# Altium schematic symbol library passive_thd.SchLib: 36 symbols
Pins are listed as number, name and electrical type; pins without a type are passive.

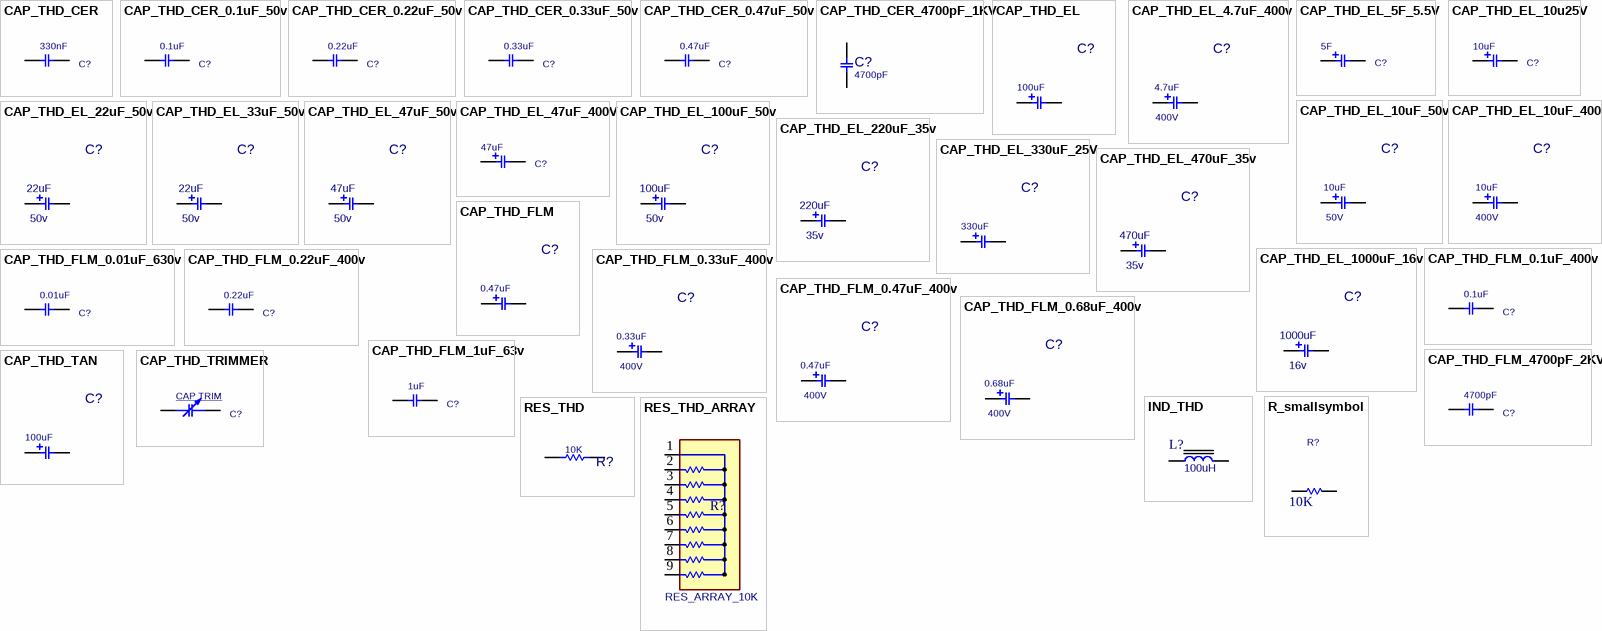
[diagram p0: symbols CAP_THD_CER to RES_THD_ARRAY]

## CAP_THD_CER
designator C?, comment 330nF
CAP, THD, CER MULTI LAYER,; DESC: CAP, CER MULTI LAYER,; MANF_P#: MANF_PART#; PARAM2: 50V; PRICE: 100= 1$; MANF: MANF; ASSEMBLY: ASSEMBLY; VALUE: 330nF
footprint C_CERM_D3 (CAP, CER MULTILAYER, D:3.5mm, pitch: 2.54mm)
footprint C_CER_D5 (CAP, CER, D:5mm, pitch: 2.5mm)
footprint C_CERM_D6 (CAP, CER MULTILAYER, 6X2mm, pitch: 5mm)
footprint C_CERM_D7 (CAP, CER MULTILAYER, 7.0X2.6mm, pitch: 5.0mm)
footprint C_CERM_D10 (CAP, CER MULTILAYER, 12X4mm, pitch: 7.5mm)
footprint C_CERM_D4 (CAP, CER MULTILAYER, 4.2X2.0mm, pitch: 5.0mm, TDK FK24)
footprint C_CERM_D5 (CAP, CER MULTILAYER, 5.0X2.5mm, pitch: 2.5mm, RAD0.1)
footprint C_CERM_D5X3 (CAP, CER,)
footprint C_CERM_D5E (CAP, CER, High Voltage MultiLayer)
footprint C_CERM_D8 (CAP, CER, High Voltage MultiLayer)
footprint C_CERM_D8E (CAP, CER, High Voltage MultiLayer)
footprint C_CERM_D8X7 (CAP, CER, High Voltage MultiLayer)
footprint C_CERM_D9X5 (CAP, CER, High Voltage MultiLayer)
footprint C_CERM_D9X7 (CAP, CER, High Voltage MultiLayer)
footprint C_CERM_D9X7E (CAP, CER, High Voltage MultiLayer)
footprint C_CERM_D10X6 (CAP, CER, High Voltage MultiLayer)
footprint C_CERM_D10X7 (CAP, CER, High Voltage MultiLayer)
footprint C_CERM_D12 (CAP, CER, High Voltage MultiLayer)
footprint C_CERM_D12X7 (CAP, CER, High Voltage MultiLayer)
footprint C_CERM_D14 (CAP, CER, High Voltage MultiLayer)
footprint C_CERM_D15X9 (CAP, CER, High Voltage MultiLayer)
footprint C_CERM_D16X5 (CAP, CER, High Voltage MultiLayer)
footprint C_CERM_D18X8 (CAP, CER, High Voltage MultiLayer)
footprint C_CERM_D20X6 (CAP, CER, High Voltage MultiLayer)
footprint C_CERM_D25X8 (CAP, CER, High Voltage MultiLayer)
footprint C_CERM_D25X11 (CAP, CER, High Voltage MultiLayer)
footprint C_CER_D6 (CAP, CER MULTILAYER, 5.8X1.7mm, pitch: 2.5mm)
footprint C_CER_D7 (CAP, CER MULTILAYER, 7.0X1.7mm, pitch: 5.0mm)
footprint C_CER_D8 (CAP, CER, D: 8.3mm, pitch: 5.08mm)
pins: 1, 2

## CAP_THD_CER_0.1uF_50v
designator C?, comment 0.1uF
CAP, THD, CER MULTI LAYER,; DESC: CAP, CER MULTI LAYER,; MANF_P#: MANF_PART#; PARAM2: 50V; PRICE: 100= 1$; MANF: MANF; ASSEMBLY: ASSEMBLY; VALUE: 0.1uF
footprint C_CERM_D4 (CAP, CER MULTILAYER, 4.2X2.0mm, pitch: 5.0mm, TDK FK24)
pins: 1, 2

## CAP_THD_CER_0.22uF_50v
designator C?, comment 0.22uF
CAP, THD, CER MULTI LAYER,; DESC: CAP, CER MULTI LAYER,; MANF_P#: MANF_PART#; PARAM2: 50V; PRICE: 100= 1$; MANF: MANF; ASSEMBLY: ASSEMBLY; VALUE: 0.22uF
footprint C_CERM_D4 (CAP, CER MULTILAYER, 4.2X2.0mm, pitch: 5.0mm, TDK FK24)
pins: 1, 2

## CAP_THD_CER_0.33uF_50v
designator C?, comment 0.33uF
CAP, THD, CER MULTI LAYER,; DESC: CAP, CER MULTI LAYER,; MANF_P#: MANF_PART#; PARAM2: 50V; PRICE: 100= 1$; MANF: MANF; ASSEMBLY: ASSEMBLY; VALUE: 0.33uF
footprint C_CERM_D4 (CAP, CER MULTILAYER, 4.2X2.0mm, pitch: 5.0mm, TDK FK24)
pins: 1, 2

## CAP_THD_CER_0.47uF_50v
designator C?, comment 0.47uF
CAP, THD, CER MULTI LAYER,; DESC: CAP, CER MULTI LAYER,; MANF_P#: MANF_PART#; PARAM2: 50V; PRICE: 100= 1$; MANF: MANF; ASSEMBLY: ASSEMBLY; VALUE: 0.47uF
footprint C_CERM_D4 (CAP, CER MULTILAYER, 4.2X2.0mm, pitch: 5.0mm, TDK FK24)
pins: 1, 2

## CAP_THD_CER_4700pF_1KV
designator C?, comment 4700pF
CAP, CER; MANF_P#: H472K47X7RN63J7R; MANF: Vishay; PARAM: X7R, 10%, , -55~125oC; DESC: CAP, MLCC; DIST#: MOUSER; PARAM2: 1KV; ASSEMBLY: ASSEMBLY; PRICE: 0.17$; VALUE: 4700pF
footprint C_CERM_D12 (CAP, CER, High Voltage MultiLayer)
pins: 1, 2

## CAP_THD_EL
designator C?, comment 100uF
CAP, THD, ELEC,; MANF_P#: MANF_PART#; PARAM2: 25V; DESC: DESCRIPTION; DIST#: MOUSER; PARAM: 20%; PRICE: 10= 5$; MANF: MANF; ASSEMBLY: ASSEMBLY; VALUE: 100uF
footprint C_EL_4X7 (Cap Elec, D4.0X7.0H pitch: 1.5mm)
footprint C_EL_5X7 (Cap Elec, D5.0X7.0H pitch: 2mm)
footprint C_EL_5X11 (Cap Elec, D5.0X11.0H pitch: 2mm)
footprint C_EL_6X11 (Cap Elec, D6.3X11.0H pitch: 2.5mm)
footprint C_EL_8X12 (Cap Elec, D8.0X12.0H pitch: 3.5mm, RB.14/.26, RB.15/.32)
footprint C_EL_8X12R (Cap Elec, D8.0X12.0H pitch: 3.5mm, RIGHT ANGLE)
footprint C_EL_10X20 (Cap Elec, D10.0X20.0H pitch: 5.0mm, RB.2/.4)
footprint C_EL_12X25 (Cap Elec, D12.0X25.0H pitch: 5.0mm, RB.2/.5)
footprint C_EL_16X25 (Cap Elec, D16.0X25.0H pitch: 7.6mm, RB.3/.6)
footprint C_EL_18X35 (Cap Elec, D18.0X35.0H pitch: 7.6mm, RB.3/.7)
footprint C_EL_20X35 (Cap Elec, D20.0X35.0H pitch: 10.0mm, RB.4/.8)
footprint C_EL_25X40 (Cap Elec, D25.0X40.0H pitch: 12.8mm, RB.5/1)
footprint C_EL_30X50 (Cap Elec, D30.0X50.0H pitch: 10.0mm)
footprint C_EL_35X30 (Cap Elec, D35.0X30.0H pitch: 10.0mm, 470uF/400V, RB.44/1.3)
footprint C_EL_10X12 (Footprint not found)
footprint C_EL_6X12R (Capacitor Electrolythic, D6.3X12.0H pitch: 2.5mm)
footprint C_EL_5X12 (Capacitor Electrolythic, D5X12H pitch: 2mm)
footprint C_EL_5X20 (Capacitor Electrolythic, D5X20H pitch: 2.5mm)
footprint C_EL_6X12 (Capacitor Electrolythic, D6.3X12H pitch: 2.5mm)
footprint C_EL_6X7 (Capacitor Electrolythic, D6.3X7.0H pitch: 2.5mm)
footprint C_EL_8X14 (Capacitor Electrolythic, D8X14H pitch: 3.5mm)
footprint C_EL_8X20 (Capacitor Electrolythic, D8X14H pitch: 3.5mm)
footprint C_EL_10X16 (Capacitor Electrolythic, D10.0X16.0H pitch: 5.0mm)
footprint C_EL_10X16R (Capacitor Electrolythic, D10.0X16.0H pitch: 5.0mm)
footprint C_EL_10X20R (Capacitor Electrolythic, D10X20H pitch: 5.0mm)
footprint C_EL_10X25R (Capacitor Electrolythic, D10X25H pitch: 5mm)
footprint C_EL_10X30 (Capacitor Electrolythic, D10X30H pitch: 5mm)
footprint C_EL_10X30R (Capacitor Electrolythic, D10X30H pitch: 5mm)
footprint C_EL_10X40R (Capacitor Electrolythic, D10X40H pitch: 5mm)
footprint C_EL_10X45R (Capacitor Electrolythic, D10X45H pitch: 5mm)
footprint C_EL_10X50R (Capacitor Electrolythic, D10X50H pitch: 5mm)
footprint C_EL_12X15 (Capacitor Electrolythic, D12.5X15H pitch: 5mm)
footprint C_EL_12X20 (Capacitor Electrolythic, D12.5X20H pitch: 5mm)
footprint C_EL_12X20R (Capacitor Electrolythic, D12.5X20H pitch: 5mm)
footprint C_EL_12X25R (Capacitor Electrolythic, D12.5X25H pitch: 5mm)
footprint C_EL_12X30 (Capacitor Electrolythic, D12.5X30H pitch: 5mm)
footprint C_EL_12X30R (Capacitor Electrolythic, D12.5X30H pitch: 5mm)
footprint C_EL_12X35 (Capacitor Electrolythic, D12.5X35H pitch: 5mm)
footprint C_EL_12X35R (Capacitor Electrolythic, D12.5X35H pitch: 5mm)
footprint C_EL_12X40 (Capacitor Electrolythic, D12.5X40H pitch: 5mm)
footprint C_EL_12X40R (Capacitor Electrolythic, D12.5X40H pitch: 5mm)
footprint C_EL_12X45 (Capacitor Electrolythic, D12.5X45H pitch: 5mm)
footprint C_EL_12X45R (Capacitor Electrolythic, D12.5X45H pitch: 5mm)
footprint C_EL_12X50 (Capacitor Electrolythic, D12.5X50H pitch: 5mm)
footprint C_EL_12X50R (Capacitor Electrolythic, D12.5X50H pitch: 5mm)
footprint C_EL_13X25 (Capacitor Electrolythic, D13X25H pitch: 5mm)
footprint C_EL_14X20 (Capacitor Electrolythic, D14.5X20H pitch: 7.4mm)
footprint C_EL_14X20R (Capacitor Electrolythic, D14.5X20H pitch: 7.4mm)
footprint C_EL_14X25 (Capacitor Electrolythic, D14.5X25H pitch: 7.4mm)
footprint C_EL_14X25R (Capacitor Electrolythic, D14.5X25H pitch: 7.4mm)
footprint C_EL_14X30 (Capacitor Electrolythic, D14.5X30H pitch: 7.4mm)
footprint C_EL_14X30R (Capacitor Electrolythic, D14.5X30H pitch: 7.4mm)
footprint C_EL_14X35 (Capacitor Electrolythic, D14.5X35H pitch: 7.4mm)
footprint C_EL_14X35R (Capacitor Electrolythic, D14.5X35H pitch: 7.4mm)
footprint C_EL_14X40 (Capacitor Electrolythic, D14.5X40H pitch: 7.4mm)
footprint C_EL_14X40R (Capacitor Electrolythic, D14.5X40H pitch: 7.4mm)
footprint C_EL_14X45 (Capacitor Electrolythic, D14.5X45H pitch: 7.4mm)
footprint C_EL_14X45R (Capacitor Electrolythic, D14.5X45H pitch: 7.4mm)
footprint C_EL_14X50 (Capacitor Electrolythic, D14.5X50H pitch: 7.4mm)
footprint C_EL_14X50R (Capacitor Electrolythic, D14.5X50H pitch: 7.4mm)
footprint C_EL_16X15 (Capacitor Electrolythic, D16X15H pitch: 7.4mm)
footprint C_EL_16X20 (Capacitor Electrolythic, D16X20H pitch: 7.4mm)
footprint C_EL_16X20R (Capacitor Electrolythic, D16X20H pitch: 7.4mm)
footprint C_EL_16x25R (Capacitor Electrolythic, D16X25H pitch: 7.4mm)
footprint C_EL_16X31 (Capacitor Electrolythic, D16X31H pitch: 7.4mm)
footprint C_EL_16X31R (Capacitor Electrolythic, D16X31H pitch: 7.4mm)
footprint C_EL_16X35R (Capacitor Electrolythic, D16X35H pitch: 7.4mm)
footprint C_EL_16X35 (Capacitor Electrolythic, D16X35H pitch: 7.4mm)
footprint C_EL_16X40 (Capacitor Electrolythic, D16X40H pitch: 7.4mm)
footprint C_EL_16X40R (Capacitor Electrolythic, D16X40H pitch: 7.4mm)
footprint C_EL_16X45 (Capacitor Electrolythic, D16X45H pitch: 7.4mm)
footprint C_EL_16X45R (Capacitor Electrolythic, D16X45H pitch: 7.4mm)
footprint C_EL_16X50 (Capacitor Electrolythic, D16X50H pitch: 7.4mm)
footprint C_EL_16X50R (Capacitor Electrolythic, D16X50H pitch: 7.4mm)
footprint C_EL_18X20 (Capacitor Electrolythic, D18X20H pitch: 7.4mm)
footprint C_EL_18X20R (Capacitor Electrolythic, D18X20H pitch: 7.4mm)
footprint C_EL_18X25 (Capacitor Electrolythic, D18X25H pitch: 7.4mm)
footprint C_EL_18X25R (Capacitor Electrolythic, D18X25H pitch: 7.4mm)
footprint C_EL_18X31 (Capacitor Electrolythic, D18X31H pitch: 7.4mm)
footprint C_EL_18X31R (Capacitor Electrolythic, D18X31H pitch: 7.4mm)
footprint C_EL_18X35R (Capacitor Electrolythic, D18X35H pitch: 7.4mm)
footprint C_EL_18X40 (Capacitor Electrolythic, D18X40H pitch: 7.4mm)
footprint C_EL_18X45 (Capacitor Electrolythic, D18X45H pitch: 7.4mm)
footprint C_EL_18X40R (Capacitor Electrolythic, D18X40H pitch: 7.4mm)
footprint C_EL_18X45R (Capacitor Electrolythic, D18X45H pitch: 7.4mm)
footprint C_EL_18X50 (Capacitor Electrolythic, D18X50H pitch: 7.4mm)
footprint C_EL_18X50R (Capacitor Electrolythic, D18X50H pitch: 7.4mm)
footprint C_EL_26X13X27 (Cap Elec, 26X13X27mm, 18mm pitch)
pins: 1, 2

## CAP_THD_EL_4.7uF_400v
designator C?, comment PARAM2: 400V  (hidden comment: 4.7uF)
CAP, THD, ELEC,; MANF_P#: MANF_PART#; DESC: DESCRIPTION; DIST#: MOUSER; PARAM: 20%; PRICE: 10= 5$; MANF: MANF; ASSEMBLY: ASSEMBLY; VALUE: 4.7uF
footprint C_EL_8X12 (Capacitor Electrolythic, D8.0X12.0H pitch: 3.5mm)
footprint C_EL_10X16R (Capacitor Electrolythic, D10.0X16.0H pitch: 5.0mm)
pins: 1, 2

## CAP_THD_EL_5F_5.5V
designator C?, comment 5F
CAP, SMD, ELEC, 5F, 5.5V; MANF: Illinois Capacitor; MANF_P#: DGH505Q5R5; PARAM: 5F; PARAM2: 5.5V; PRICE: 4.6$; VALUE: 5F
footprint C_EL_26X13X27 (Cap Elec, 26X13X27mm, 18mm pitch)
pins: 1, 2

## CAP_THD_EL_10u25V
designator C?, comment 10uF
CAP, THD, ELEC, 10uF, 25V; MANF_P#: MANF_PART#; PARAM: 25V; MANF: MANF; PARAM2: PARAM2; VALUE: 10uF
footprint C_EL_4X7 (Cap Elec dia:4mm height: 7mm pitch: 1.5mm)
pins: 1, 2

## CAP_THD_EL_10uF_50v
designator C?, comment PARAM2: 50V  (hidden comment: 10uF)
CAP, THD, ELEC,; MANF_P#: MANF_PART#; DESC: DESCRIPTION; DIST#: MOUSER; PARAM: 20%; PRICE: 10= 5$; MANF: MANF; ASSEMBLY: ASSEMBLY; VALUE: 10uF
footprint C_EL_5X11 (Capacitor Electrolythic, D5.0X11.0H pitch: 2mm)
pins: 1, 2

## CAP_THD_EL_10uF_400v
designator C?, comment PARAM2: 400V  (hidden comment: 10uF)
CAP, THD, ELEC,; MANF_P#: MANF_PART#; DESC: DESCRIPTION; DIST#: MOUSER; PARAM: 20%; PRICE: 10= 5$; MANF: MANF; ASSEMBLY: ASSEMBLY; VALUE: 10uF
footprint C_EL_8X12 (Capacitor Electrolythic, D8.0X12.0H pitch: 3.5mm)
pins: 1, 2

## CAP_THD_EL_22uF_50v
designator C?, comment PARAM2: 50v  (hidden comment: 22uF)
CAP, THD, ELEC,; MANF_P#: MANF_PART#; DESC: DESCRIPTION; DIST#: MOUSER; PARAM: 20%; PRICE: 10= -$; MANF: MANF; ASSEMBLY: ASSEMBLY; VALUE: 22uF
footprint C_EL_5X11 (Capacitor Electrolythic, D5.0X11.0H pitch: 2mm)
pins: 1, 2

## CAP_THD_EL_33uF_50v
designator C?, comment PARAM2: 50v  (hidden comment: 22uF)
CAP, THD, ELEC,; MANF_P#: MANF_PART#; DESC: DESCRIPTION; DIST#: MOUSER; PARAM: 20%; PRICE: 10= -$; MANF: MANF; ASSEMBLY: ASSEMBLY; VALUE: 22uF
footprint C_EL_6X12 (Capacitor Electrolythic, D6.3X12H pitch: 2.5mm)
pins: 1, 2

## CAP_THD_EL_47uF_50v
designator C?, comment PARAM2: 50v  (hidden comment: 47uF)
CAP, THD, ELEC,; MANF_P#: MANF_PART#; DESC: DESCRIPTION; DIST#: MOUSER; PARAM: 20%; PRICE: 10= -$; MANF: MANF; ASSEMBLY: ASSEMBLY; VALUE: 47uF
footprint C_EL_6X12 (Capacitor Electrolythic, D6.3X12H pitch: 2.5mm)
pins: 1, 2

## CAP_THD_EL_47uF_400V
designator C?, comment 47uF
CAP, ELEC; PARAM: 400V; MANF_P#: MANF_PART#; MANF: MANF; PARAM2: PARAM2; VALUE: 47uF
footprint C_EL_16X25 (Cap Elec, D16.0X25.0H pitch: 7.6mm, RB.3/.6)
footprint C_EL_16X25R (Capacitor Electrolythic, D16X25H pitch: 7.4mm)
pins: 1, 2

## CAP_THD_EL_100uF_50v
designator C?, comment PARAM2: 50v  (hidden comment: 100uF)
CAP, THD, ELEC,; MANF_P#: MANF_PART#; DESC: DESCRIPTION; DIST#: MOUSER; PARAM: 20%; PRICE: 10= -$; MANF: MANF; ASSEMBLY: ASSEMBLY; VALUE: 100uF
footprint C_EL_8X12 (Capacitor Electrolythic, D8.0X12.0H pitch: 3.5mm)
pins: 1, 2

## CAP_THD_EL_220uF_35v
designator C?, comment PARAM2: 35v  (hidden comment: 220uF)
CAP, THD, ELEC,; MANF_P#: MANF_PART#; DESC: DESCRIPTION; DIST#: MOUSER; PARAM: 20%; PRICE: 10= -$; MANF: MANF; ASSEMBLY: ASSEMBLY; VALUE: 220uF
footprint C_EL_8X12 (Capacitor Electrolythic, D8.0X12.0H pitch: 3.5mm)
pins: 1, 2

## CAP_THD_EL_330uF_25V
designator C?, comment 330uF
CAP, THD, ELEC; MANF_P#: EEE-1EA331UP; PARAM2: 20%; MANF: PANASONIC; DESC: DESCRIPTION; DIST#: MOUSER; PARAM: 25V; PRICE: 10= 5$; ASSEMBLY: ASSEMBLY; VALUE: 330uF
footprint C_EL_8X12 (Cap Elec dia:8mm height: 12mm pitch: 3.5mm)
pins: 1, 2

## CAP_THD_EL_470uF_35v
designator C?, comment PARAM2: 35v  (hidden comment: 470uF)
CAP, THD, ELEC,; MANF_P#: MANF_PART#; DESC: DESCRIPTION; DIST#: MOUSER; PARAM: 20%; PRICE: 10= -$; MANF: MANF; ASSEMBLY: ASSEMBLY; VALUE: 470uF
footprint C_EL_10X16 (Capacitor Electrolythic, D10.0X16.0H pitch: 5.0mm)
pins: 1, 2

## CAP_THD_EL_1000uF_16v
designator C?, comment PARAM2: 16v  (hidden comment: 1000uF)
CAP, THD, ELEC,; MANF_P#: MANF_PART#; DESC: DESCRIPTION; DIST#: MOUSER; PARAM: 20%; PRICE: 10= -$; MANF: MANF; ASSEMBLY: ASSEMBLY; VALUE: 1000uF
footprint C_EL_10X16 (Capacitor Electrolythic, D10.0X16.0H pitch: 5.0mm)
pins: 1, 2

## CAP_THD_FLM
designator C?, comment 0.47uF
CAP, THD, FILM,; MANF_P#: MANF_PART#; PARAM2: 25V; DESC: DESCRIPTION; DIST#: MOUSER; PARAM: 20%; PRICE: 10= 5$; MANF: MANF; ASSEMBLY: ASSEMBLY; VALUE: 0.47uF
footprint C_FLM_4X2H7 (Capacitor, THT, Metallized Polyester Film 4.6X2.5X6.8mm)
footprint C_FLM_4X3H7 (Capacitor, THT, Metallized Polyester Film, 4.6x3.0x7.5mm)
footprint C_FLM_4X4H8 (Capacitor, THT, Metallized Polyester Film with 4.6x3.8x8.5mm LxTxH)
footprint C_FLM_4X4H9 (Capacitor, THT, Metallized Polyester Film, 4.6x4.6x9.2mm)
footprint C_FLM_4X5H10 (Capacitor, THT, Metallized Polyester Film, 4.6x5.5x10.6mm)
footprint C_FLM_6X2H5 (CAP, FILM MKT, 6.3X2.4mm, pitch: 4.7mm)
footprint C_FLM_6X3H5 (CAP, POLYESTER, 5.8X3.5mm pitch: 5.0mm)
footprint C_FLM_6X4H12 (Capacitor, THT, Metallized Polyester Film, 6x4x12mm)
footprint C_FLM_7X2H6 (Capacitor, THT, Metallized Polyester Film with 7.2x2.5x6.5mm LxTxH)
footprint C_FLM_7X2H7 (CAP, POLYESTER, 7.5x2.5x7mm pitch: 5.0mm)
footprint C_FLM_7X3H6 (Capacitor, THT, Metallized Polyester Film with 7.2x3.0x6.5mm LxTxH)
footprint C_FLM_7X3H6R (Capacitor, THT, Metallized Polyester Film with 7.2x3.0x6.5mm LxTxH)
footprint C_FLM_7X3H8 (Capacitor, THT, Metallized Polyester Film with 7.2x3.5x8.5mm LxTxH)
footprint C_FLM_7X3H8R (Capacitor, THT, Metallized Polyester Film with 7.2x3.5x8.0mm LxTxH)
footprint C_FLM_7X4H6 (Capacitor, THT, Metallized Polyester Film with 7.2x4.5x6mm LxTxH)
footprint C_FLM_7X4H9 (Capacitor, THT, Metallized Polyester Film with 7.2x4.5x9.5mm LxTxH)
footprint C_FLM_7X5H7 (Capacitor, THT, Metallized Polyester Film with 7.2x5.5x7mm LxTxH)
footprint C_FLM_7X5H9R (Capacitor, THT, Metallized Polyester Film with 7.6x5.0x9.2mm LxTxH)
footprint C_FLM_7X5H10 (Capacitor, THT, Metallized Polyester Film with 7.2x5.0x10mm LxTxH)
footprint C_FLM_7X5H11 (Capacitor, THT, Metallized Polyester Film with 7.2x5.5x11.5mm LxTxH)
footprint C_FLM_7X5X10 (CAP, POLYESTER, 7.0X5.0x10mm pitch: 5.0mm)
footprint C_FLM_7X6H8 (CAP, POLYESTER, 7.3X6.5mm pitch: 5.0mm)
footprint C_FLM_7X6H7 (Capacitor, THT, Metallized Polyester Film with 7.2x6.5x7.0mm LxTxH)
footprint C_FLM_7X6H10 (Capacitor, THT, Metallized Polyester Film, 7.3x6.5x10)
footprint C_FLM_7X7H8 (Capacitor, THT, Metallized Polyester Film with 7.2x7.2x8.5mm LxTxH)
footprint C_FLM_7X7H10R (Capacitor, THT, Metallized Polyester Film with 7.6x7.0x10.6mm TxHxW)
footprint C_FLM_7X7H13 (Capacitor, THT, Metallized Polyester Film with 7.2x7.2x13mm LxTxH)
footprint C_FLM_7X8H10 (Capacitor, THT, Metallized Polyester Film with 7.2x8.5x10mm LxTxH)
footprint C_FLM_7X8H14 (Capacitor, THT, Metallized Polyester Film with 7.2x8.5x14mm LxTxH)
footprint C_FLM_7X9H10 (CAP, POLYESTER, 7.2X8.5x10mm pitch: 5.0mm)
footprint C_FLM_7X11H16 (Capacitor, THT, Metallized Polyester Film with 7.2x11x16mm LxTxH)
footprint C_FLM_8X8H13R (Capacitor, THT, Metallized Polyester Film with 7.8x7.8x13.0mm LxTxH)
footprint C_FLM_9X6H9 (CAP, POLYESTER, 9.3X5.2mm pitch: 7.6mm)
footprint C_FLM_10X2H7 (Capacitor, THT, Metallized Polyester Film 10x2.5x7mm LxTxH)
footprint C_FLM_10X3H7 (Capacitor, THT, Metallized Polyester Film 10x3x7mm LxTxH)
footprint C_FLM_10X4H7 (Capacitor, THT, Metallized Polyester Film 10x4.5x7mm LxTxH)
footprint C_FLM_10X4H8R (Capacitor, THT, Metallized Polyester Film with 3.5x9.5x10.0mm TxHxW)
footprint C_FLM_10X5H7 (Capacitor, THT, Metallized Polyester Film 10x5x7mm LxTxH)
footprint C_FLM_10X5H8 (CAP, POLYESTER, 10X5.5mm pitch: 7.6mm)
footprint C_FLM_10X6H7 (Capacitor, THT, Metallized Polyester Film with 10x5.7x7mm LxTxH)
footprint C_FLM_10X6X9 (CAP, POLYESTER, 10.5X6.0X9.0mm pitch: 7.6mm)
footprint C_FLM_10X6X12 (CAP, POLYESTER, 10.3X6.0X12.0mm pitch: 7.6mm)
footprint C_FLM_10X7H7 (Capacitor, THT, Metallized Polyester Film 10x7.2x7mm LxTxH)
footprint C_FLM_10X8H9 (CAP, POLYESTER, 10.0X8.0 pitch: 7.6mm)
footprint C_FLM_11X4H8 (CAP, POLYESTER, 11.4X3.8X7.8mm pitch: 10mm, 0.1uF 400V)
footprint C_FLM_12X4H9 (CAP, POLYESTER, 12.5X4.5X9.0 pitch: 10mm)
footprint C_FLM_12X4H10 (Capacitor, THT, Metallized Polyester Film. 12.5x4.5x10mm)
footprint C_FLM_13X3H8 (Capacitor, THT, Metallized Polyester Film 13x3x8.5mm LxTxH)
footprint C_FLM_13X3H9 (Capacitor, THT, Metallized Polyester Film with 13x3x9mm LxTxH)
footprint C_FLM_13X4H8 (Capacitor, THT, Metallized Polyester Film 13.5x4x8.5mm LxTxH)
footprint C_FLM_13X4H9 (Capacitor, THT, Metallized Polyester Film 13x4x9.5mm LxTxH)
footprint C_FLM_13X5H9 (CAP, POLYESTER, 12.8X4.8 pitch: 10mm)
footprint C_FLM_13X5H10 (Capacitor, THT, Metallized Polyester Film 13x5x10mm LxTxH)
footprint C_FLM_13X5H11 (Capacitor, THT, Metallized Polyester Film 13x5x11mm LxTxH)
footprint C_FLM_13X5H12 (Capacitor, THT, Metallized Polyester Film 13x5x12mm LxTxH)
footprint C_FLM_13X6H12 (Capacitor, THT, Metallized Polyester Film with 13x6x12.5mm LxTxH)
footprint C_FLM_13X6H13 (Capacitor, THT, Metallized Polyester Film 13x6x13mm LxTxH)
footprint C_FLM_13X8H12 (Capacitor, THT, Metallized Polyester Film 13x8x12mm LxTxH)
footprint C_FLM_17X7H14 (CAP, POLYESTER, 17X7mm pitch: 15.0mm, 0.33uF 400V)
footprint C_FLM_18X5H11 (Capacitor, THT, Metallized Polyester Film 18x5x11mm LxTxH)
footprint C_FLM_18X6H12 (Capacitor, THT, Metallized Polyester Film 18x6x12.5mm LxTxH)
footprint C_FLM_18X7H14 (Capacitor, THT, Metallized Polyester Film 18x7x14mm LxTxH)
footprint C_FLM_18X8H15 (Capacitor, THT, Metallized Polyester Film 18x8x15mm LxTxH)
footprint C_FLM_18X9H14 (Capacitor, THT, Metallized Polyester Film 18x9x14mm LxTxH)
footprint C_FLM_18X9H16 (Capacitor, THT, Metallized Polyester Film 18x9x16mm LxTxH)
footprint C_FLM_18X11H14 (Capacitor, THT, Metallized Polyester Film 18x11x14mm LxTxH)
footprint C_FLM_19X5H13 (Capacitor, THT, Metallized Polyester Film 19x5x13mm LxTxH)
footprint C_FLM_19X6H14 (Capacitor, THT, Metallized Polyester Film 19x6x14mm LxTxH)
footprint C_FLM_19X7H15 (Capacitor, THT, Metallized Polyester Film 19x7x15mm LxTxH)
footprint C_FLM_19X8H11 (CAP, POLYESTER, MKT, 18X5, 19.0X8.0mm pitch: 15.0mm, 0.22uF 400V)
footprint C_FLM_19X8H17 (Capacitor, THT, Metallized Polyester Film 19x8x17mm LxTxH)
footprint C_FLM_19X10H18 (Capacitor, THT, Metallized Polyester Film 19x10x18 LxTxH)
footprint C_FLM_22X7H14 (CAP, POLYESTER, 33.0X7.0mm pitch: 20.0mm, 0.68uF 400V)
footprint C_FLM_24X6H9 (CAP, POLYESTER, 23.8X5.8mm pitch: 20.0mm, 0.33uF 400V)
footprint C_FLM_25X10H20 (Capacitor, THT, Metallized Polyester Film, 25x10x20)
footprint C_FLM_25X10H21 (Capacitor, THT, Metallized Polyester Film, 25x10x21mm)
footprint C_FLM_26X5H14 (Capacitor, THT, Metallized Polyester Film 26.5x5x14mm LxTxH)
footprint C_FLM_26X6H15 (Capacitor, THT, Metallized Polyester Film 26.5x6x15mm LxTxH)
footprint C_FLM_26X7H16 (Capacitor, THT, Metallized Polyester Film with 26.5x7x16.5mm LxTxH)
footprint C_FLM_26X8H15 (CAP, POLYESTER, 26.0X7.8mm pitch: 22.5mm, 0.68uF 400V)
footprint C_FLM_26X8H18 (Capacitor, THT, Metallized Polyester Film with 26.5x8.5x18.5mm LxTxH)
footprint C_FLM_26X9H14 (CAP, POLYESTER, 26.0X9.3mm pitch: 22.5mm, 0.68uF 400V)
footprint C_FLM_26X10H19 (Capacitor, THT, Metallized Polyester Film with 26.5x10.5x19mm LxTxH)
footprint C_FLM_26X10H20 (Capacitor, THT, Metallized Polyester Film with 26.5x10.5x20.5mm LxTxH)
footprint C_FLM_26X11H21 (Capacitor, THT, Metallized Polyester Film with 26.5x11x21mm LxTxH)
footprint C_FLM_28X8H20 (Capacitor, THT, Metallized Polyester Film with 28x8x20mm LxTxH)
footprint C_FLM_28X10H20 (Capacitor, THT, Metallized Polyester Film with 28x10x20mm LxTxH)
footprint C_FLM_28X12H21 (Capacitor, THT, Metallized Polyester Film with 28x12x21mm LxTxH)
pins: 1, 2

## CAP_THD_FLM_0.1uF_400v
designator C?, comment 0.1uF
CAP, FILM; PARAM: 400V; DESC: CAP, FILM,; MANF_P#: MANF_PART#; PRICE: 100= 1$; MANF: MANF; PARAM2: PARAM2; ASSEMBLY: ASSEMBLY; VALUE: 0.1uF
footprint C_FLM_9X6H9 (CAP, POLYESTER, 9.3X5.2mm pitch: 7.6mm)
pins: 1, 2

## CAP_THD_FLM_0.01uF_630v
designator C?, comment 0.01uF
CAP, FILM; PARAM: 630V; DESC: CAP, FILM,; MANF_P#: MANF_PART#; PRICE: 100= 1$; MANF: MANF; PARAM2: PARAM2; ASSEMBLY: ASSEMBLY; VALUE: 0.01uF
footprint C_FLM_13X5H11 (Capacitor, THT, Metallized Polyester Film 13x5x11mm LxTxH)
pins: 1, 2

## CAP_THD_FLM_0.22uF_400v
designator C?, comment 0.22uF
CAP, FILM; PARAM: 400V; DESC: CAP, FILM,; MANF_P#: MANF_PART#; PRICE: 100= 1$; MANF: MANF; PARAM2: PARAM2; ASSEMBLY: ASSEMBLY; VALUE: 0.22uF
footprint C_FLM_19X8H11 (CAP, POLYESTER, MKT, 18X5, 19.0X8.0mm pitch: 15.0mm, 0.22uF 400V)
pins: 1, 2

## CAP_THD_FLM_0.33uF_400v
designator C?, comment PARAM2: 400V  (hidden comment: 0.33uF)
CAP, THD, FILM,; MANF_P#: MANF_PART#; DESC: DESCRIPTION; DIST#: MOUSER; PARAM: 20%; PRICE: 10= 5$; MANF: MANF; ASSEMBLY: ASSEMBLY; VALUE: 0.33uF
footprint C_FLM_22X7H14 (CAP, POLYESTER, 33.0X7.0mm pitch: 20.0mm, 0.68uF 400V)
pins: 1, 2

## CAP_THD_FLM_0.47uF_400v
designator C?, comment PARAM2: 400V  (hidden comment: 0.47uF)
CAP, THD, FILM,; MANF_P#: MANF_PART#; DESC: DESCRIPTION; DIST#: MOUSER; PARAM: 20%; PRICE: 10= 5$; MANF: MANF; ASSEMBLY: ASSEMBLY; VALUE: 0.47uF
footprint C_FLM_22X7H14 (CAP, POLYESTER, 33.0X7.0mm pitch: 20.0mm, 0.68uF 400V)
pins: 1, 2

## CAP_THD_FLM_0.68uF_400v
designator C?, comment PARAM2: 400V  (hidden comment: 0.68uF)
CAP, THD, FILM,; MANF_P#: MANF_PART#; DESC: DESCRIPTION; DIST#: MOUSER; PARAM: 20%; PRICE: 10= 5$; MANF: MANF; ASSEMBLY: ASSEMBLY; VALUE: 0.68uF
footprint C_FLM_25X10H20 (Capacitor, THT, Metallized Polyester Film, 25x10x20)
pins: 1, 2

## CAP_THD_FLM_1uF_63v
designator C?, comment 1uF
CAP, FILM; PARAM: PET, 5%, AEC-Q200, -55~125oC; DESC: CAP, FILM,; MANF_P#: MKS2C041001F00JA00; MANF: WIMA; PARAM2: 63VDC/40VAC; PRICE: 0.37$; ASSEMBLY: ASSEMBLY; VALUE: 1uF
footprint C_FLM_7X5H10 (Capacitor, THT, Metallized Polyester Film with 7.2x5.0x10mm LxTxH)
pins: 1, 2

## CAP_THD_FLM_4700pF_2KV
designator C?, comment 4700pF
CAP, FILM; PARAM: 5%, -55~105°C; DESC: CAP, FILM,; MANF_P#: R747I1470AA00J; MANF: KEMET; PARAM2: 2KV; PRICE: 0.6$; ASSEMBLY: ASSEMBLY; VALUE: 4700pF
footprint C_FLM_19X8H11 (CAP, POLYESTER, MKT, 18X5, 19.0X8.0mm pitch: 15.0mm, 0.22uF 400V)
pins: 1, 2

## CAP_THD_TAN
designator C?, comment 100uF
CAP, THD, TANTAL; MANF_P#: MANF_PART#; PARAM2: 25V; DESC: DESCRIPTION; DIST#: MOUSER; PARAM: 20%; PRICE: 10= 5$; MANF: MANF; ASSEMBLY: ASSEMBLY; VALUE: 100uF
footprint C_TAN_THD_4H7 (Capacitor, Polarized Radial Bead, Pin spacing 2.54mm - Body Diameter 4.5mm X Body Height 7.1mm)
footprint C_TAN_THD_4H8 (Capacitor, Polarized Radial Bead, Pin spacing 5.08mm - Body Diameter 4.5mm X Body Height 8.5mm)
footprint C_TAN_THD_5H8 (Capacitor, Polarized Radial Bead, Pin spacing 2.54mm - Body Diameter 5.5mm X Body Height 8.4mm)
footprint C_TAN_THD_5H9 (Capacitor, Polarized Radial Bead, Pin spacing 2.54mm - Body Diameter 5.5mm X Body Height 9mm)
footprint C_TAN_THD_6H10 (Capacitor, Polarized Radial Bead, Pin spacing 2.54mm - Body Diameter 6.0mm X Body Height 10mm)
footprint C_TAN_THD_6H11 (Capacitor, Polarized Radial Bead, Pin spacing 5.08mm - Body Diameter 6mm X Body Height 11.5mm)
footprint C_TAN_THD_9H15 (Capacitor, Polarized Radial Bead, Pin spacing 5.08mm - Body Diameter 8.9mm X Body Height 15.5mm)
footprint C_TAN_THD_10H18 (Capacitor, Polarized Radial Bead, Pin spacing 5.08mm - Body Diameter 10.2mm X Body Height 18.6mm)
pins: 1, 2

## CAP_THD_TRIMMER
designator C?, comment CAP TRIM
CAP, THD, TRIMMER; DESC: CAP, SMD, TRIMMER; MANF_P#: MANF_PART#; PARAM: PARAM; PRICE: 100= 1$; MANF: MANF; PARAM2: PARAM2; ASSEMBLY: ASSEMBLY; VALUE: CAP TRIM
footprint CTRM_6X6
footprint CTRM_10X10 (Trimmer Capacitor 10X10mm 3P)
pins: 1, 2

## IND_THD
designator L?, comment 100uH
INDUCTOR, THD; VALUE: 100uH
footprint LTOR_15X6 (INDUCTOR, TORIOD, 15.0X6.0mm)
footprint LTOR_25X10 (INDUCTOR, TORIOD, 25.0X10.0mm)
footprint LTOR_15X6B (INDUCTOR, TORIOD, 15.0X6.0mm BENDED)
footprint LTOR_25X10B (INDUCTOR, TORIOD, 25.0X10.0mm BENDED)
footprint LT_AX04 (INDUCTOR, Axial, 9.8mm,)
footprint LT_AX025 (INDUCTOR, Axial, 6.4mm,)
footprint LT_C6 (INDUCTOR, Cylinder, 6mm,)
footprint LT_C7 (INDUCTOR, Cylinder, 7.5mm,)
footprint LT_C10 (INDUCTOR, Cylinder, 10mm,)
pins: 1, 2

## R_smallsymbol
designator R?, comment 10K
VALUE: 10K
pins: 1, 2

## RES_THD
designator R?, comment 10K
RESISTOR, THD; MANF_P#: RK73H1ETTP4701F; MANF: KOA SPEER; PARAM: 0.063W; DESC: DESCRIPTION; DIST#: MOUSER; PARAM2: 1%; ASSEMBLY: ASSEMBLY; PRICE: 100= 0.5$; VALUE: 10K
footprint R0125W_AX025 (RESISTOR 1/8 WATT, AXIAL0.25)
footprint R1W_AX06 (RESISTOR 1 WATT, AXIAL0.6)
footprint R2W_AX08 (RESISTOR 2 WATT, AXIAL0.8)
footprint R2W_AX_VER (RESISTOR 2 WATT, AXIAL0.8)
footprint R3W_AX09 (RESISTOR 3 WATT, AXIAL0.9)
footprint RWW4W (RESISTOR 4 WATT, Ceramic Wirewound)
footprint R05W_AX05 (RESISTOR 0.5 WATT, AXIAL0.5)
footprint R025W_AX04 (RESISTOR 1/4 WATT, AXIAL0.4)
footprint R025W_AX_VER (RESISTOR 1/4 WATT, AXIAL0.4)
footprint R0125W_AX03 (RESISTOR 1/8 WATT, AXIAL0.3 INCH SPACING)
footprint R0125W_AX_VER (RESISTOR 1/8 WATT, AXIAL0.25)
footprint RWW2W_VER (RESISTOR 2 WATT, Wirewound)
footprint RWW10W_VER (RESISTOR 10 WATT, Wirewound)
footprint R10W_AX11 (RESISTOR 10 WATT, AXIAL1.1)
footprint R10W_AX14 (RESISTOR 10 WATT, AXIAL1.4)
footprint R10W_AX20 (RESISTOR 10 WATT, AXIAL2.0)
footprint RWW5W (Footprint not found)
footprint RWW5W_VER (Footprint not found)
pins: 1, 2

## RES_THD_ARRAY
designator R?, comment RES_ARRAY_10K
RESISTOR, THD, Array, 8RES; VALUE: RES_ARRAY_10K
footprint RES_ARRAYX8
pins: 1, 2, 3, 4, 5, 6, 7, 8, 9